# Altium schematic symbol library C_20_addition.SchLib: 5 symbols
Pins are listed as number, name and electrical type; pins without a type are passive.

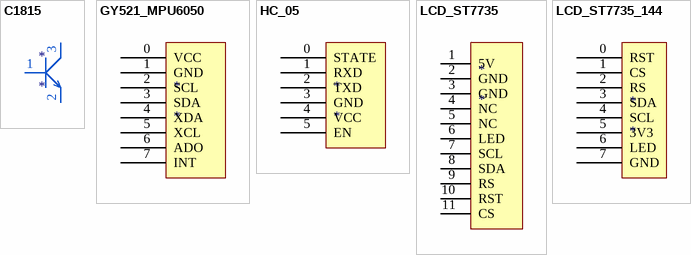
[diagram p0: symbols C1815 to LCD_ST7735_144]

## C1815
designator *
footprint C1815_SMD (SOT23, 3-Leads, Body 2.90x2.45mm, Pitch 0.95mm, IPC Medium Density)
pins: 1 B, 2 C, 3 C

## GY521_MPU6050
designator *
footprint GY521_MPU6050
pins: 0 VCC, 1 GND, 2 SCL, 3 SDA, 4 XDA, 5 XCL, 6 ADO, 7 INT

## HC_05
designator *
footprint HC_05
pins: 0 STATE, 1 RXD, 2 TXD, 3 GND, 4 VCC, 5 EN

## LCD_ST7735
designator *
footprint LCD_ST7735
pins: 1 5V, 2 GND, 3 GND, 4 NC, 5 NC, 6 LED, 7 SCL, 8 SDA, 9 RS, 10 RST, 11 CS

## LCD_ST7735_144
designator *
footprint LCD_ST7735_144
footprint LCD_ST7735
pins: 0 RST, 1 CS, 2 RS, 3 SDA, 4 SCL, 5 3V3, 6 LED, 7 GND